# EAGLE library part RPIB+ (library PR_Parts_Library)
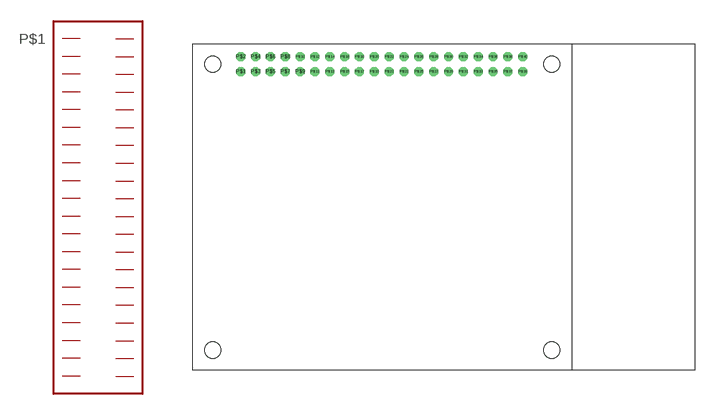
[diagram p9: symbol with the pads of RPIB+; footprint RPIB+]

Designator prefix -

## RPIB+  [RPIB+]
P$1  P$1
P$2  P$2
P$3  P$3
P$4  P$4
P$5  P$5
P$6  P$6
P$7  P$7
P$8  P$8
P$9  P$9
P$10  P$10
P$11  P$11
P$12  P$12
P$13  P$13
P$14  P$14
P$15  P$15
P$16  P$16
P$17  P$17
P$18  P$18
P$19  P$19
P$20  P$20
P$21  P$21
P$22  P$22
P$23  P$23
P$24  P$24
P$25  P$25
P$26  P$26
P$27  P$27
P$28  P$28
P$29  P$29
P$30  P$30
P$31  P$31
P$32  P$32
P$33  P$33
P$34  P$34
P$35  P$35
P$36  P$36
P$37  P$37
P$38  P$38
P$39  P$39
P$40  P$40

## Footprint RPIB+ (pad centres in mm)
drill 1.016 octagon: P$1 8.292,51.222; P$2 8.292,53.762; P$3 10.832,51.222; P$4 10.832,53.762; P$5 13.372,51.222; P$6 13.372,53.762; P$7 15.912,51.222; P$8 15.912,53.762; P$9 18.452,51.222; P$10 18.452,53.762; P$11 20.992,51.222; P$12 20.992,53.762; P$13 23.532,51.222; P$14 23.532,53.762; P$15 26.072,51.222; P$16 26.072,53.762; P$17 28.612,51.222; P$18 28.612,53.762; P$19 31.152,51.222; P$20 31.152,53.762; P$21 33.692,51.222; P$22 33.692,53.762; P$23 36.232,51.222; P$24 36.232,53.762; P$25 38.772,51.222; P$26 38.772,53.762; P$27 41.312,51.222; P$28 41.312,53.762; P$29 43.852,51.222; P$30 43.852,53.762; P$31 46.392,51.222; P$32 46.392,53.762; P$33 48.932,51.222; P$34 48.932,53.762; P$35 51.472,51.222; P$36 51.472,53.762; P$37 54.012,51.222; P$38 54.012,53.762; P$39 56.552,51.222; P$40 56.552,53.762
hole 2.75 at 3.5,3.5
hole 2.75 at 61.5,3.5
hole 2.75 at 3.5,52.5
hole 2.75 at 61.5,52.5